# Altium schematic symbol library VS-30BQ060-M3&slash_9AT.SchLib: 2 symbols
Pins are listed as number, name and electrical type; pins without a type are passive.

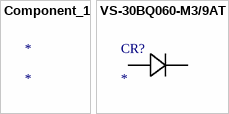
[diagram p0: symbols Component_1 to VS-30BQ060-M3/9AT]

## Component_1
designator *

## VS-30BQ060-M3/9AT
designator CR?
No Description Available; Mfr_Name: Vishay
footprint CR_0-M3/9AT_VIS
pins: 1, 2